# Altium footprint library BK912TR.PcbLib: 1 footprints
Each footprint in its own frame and in the unit in brackets; x right, y up, seen from the top. Pads: shape width x height; smd on the part's side, far side on the other; paste and mask are expansions set on the pad; w line width, h text height; cw(c..) or ccw(c..) is an arc to the next point about the centre after c.
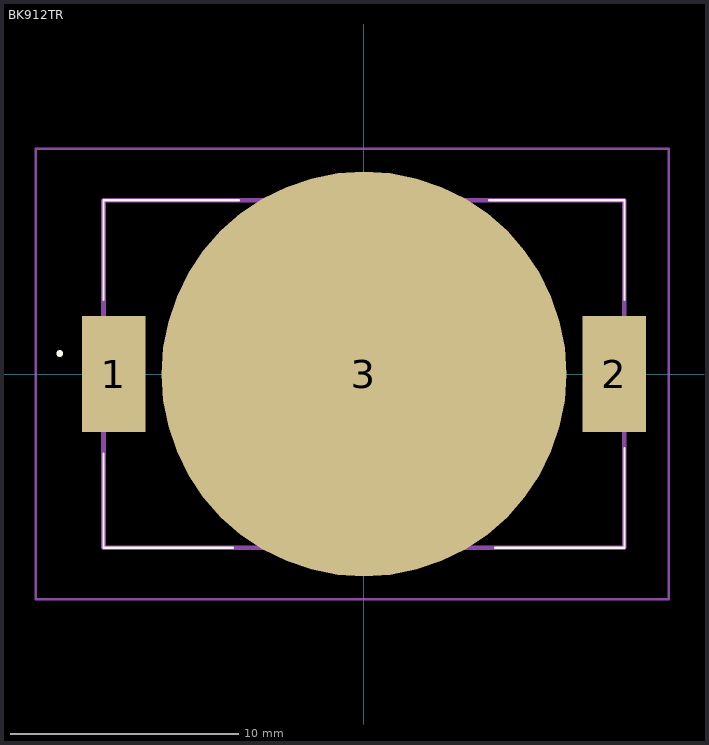
[diagram p0: the footprint, top view; thin cyan lines are the x and y axes]

## BK912TR [mm]
pads (3):
  rect 2.79x5.08 smd: 1(-10.985,0) 2(10.985,0)
  round 17.78 smd: 3(0,0)
Top Overlay:
  lines w0.1: -11.43,-7.62 -5.75,-7.62 ; -11.43,-7.62 -11.43,-7.62 ; -11.43,-7.62 -5.75,-7.62 ; -11.43,-7.62 -11.43,-7.62 ; -11.43,-7.62 -11.43,-3.5 ; -11.43,-7.62 -11.43,-3.5 ; -11.43,-3.5 -11.43,-3.5 ; -11.43,3.25 -11.43,3.25 ; -11.43,3.25 -11.43,7.62 ; -11.43,3.25 -11.43,7.62 ; -11.43,7.62 -11.43,7.62 ; -11.43,7.62 -5.5,7.62 ; -11.43,7.62 -5.5,7.62 ; -11.43,7.62 -11.43,7.62 ; -5.75,-7.62 -5.75,-7.62 ; -5.5,7.62 -5.5,7.62 ; 5.5,7.62 11.43,7.62 ; 5.5,7.62 11.43,7.62 ; 5.5,7.62 5.5,7.62 ; 5.75,-7.62 11.43,-7.62 ; 5.75,-7.62 5.75,-7.62 ; 5.75,-7.62 11.43,-7.62 ; 11.43,-7.62 11.43,-3.25 ; 11.43,-7.62 11.43,-7.62 ; 11.43,-7.62 11.43,-3.25 ; 11.43,-7.62 11.43,-7.62 ; 11.43,-3.25 11.43,-3.25 ; 11.43,3.25 11.43,7.62 ; 11.43,3.25 11.43,3.25 ; 11.43,3.25 11.43,7.62 ; 11.43,7.62 11.43,7.62 ; 11.43,7.62 11.43,7.62
  lines w0.2: -13.4,0.9 -13.4,0.9 ; -13.4,0.9 ccw(c-13.35,0.9) -13.3,0.9 ; -13.4,0.9 cw(c-13.35,0.9) -13.3,0.9 ; -13.4,0.9 -13.4,0.9 ; -13.4,0.9 ccw(c-13.35,0.9) -13.3,0.9 ; -13.3,0.9 -13.3,0.9
Mechanical 15:
  lines w0.2: -11.43,-7.62 11.43,-7.62 11.43,7.62 -11.43,7.62 -11.43,-7.62
Mechanical 20:
  lines w0.1: -14.4,-9.89 13.38,-9.89 13.38,9.89 -14.4,9.89 -14.4,-9.89